# EAGLE library part TPS7A3301RGWR (library TPS7A3301RGWR)
-3V to -36V Vin, 1A output current, ultra-low-noise, high-PSRR, low-dropout (LDO) linear regulator Source: Datasheet <http://www.ti.com/lit/ds/symlink/tps7a33.pdf>
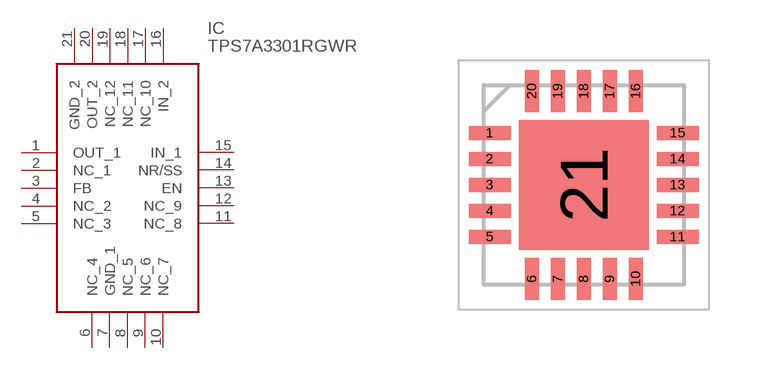
[diagram p0: symbol with the pads of QFN65P500X500X100-21N; footprint QFN65P500X500X100-21N]

Designator prefix IC

## TPS7A3301RGWR (Arrow_Part_Number: TPS7A3301RGWR; Arrow_Price-Stock: https://www.arrow.com/en/products/tps7a3301rgwr/texas-instruments?region=nac; Description: -3V to -36V Vin, 1A output current, ultra-low-noise, high-PSRR, low-dropout (LDO) linear regulator; Height: 1mm; Manufacturer_Name: Texas Instruments; Manufacturer_Part_Number: TPS7A3301RGWR; Mouser_Part_Number: 595-TPS7A3301RGWR; Mouser_Price-Stock: https://www.mouser.co.uk/ProductDetail/Texas-Instruments/TPS7A3301RGWR?qs=i8JZjLRTtkLEU7%252B8PZb5ZA%3D%3D)  [QFN65P500X500X100-21N]
1  OUT_1
2  NC_1
3  FB
4  NC_2
5  NC_3
6  NC_4
7  GND_1
8  NC_5
9  NC_6
10  NC_7
11  NC_8
12  NC_9
13  EN
14  NR/SS
15  IN_1
16  IN_2
17  NC_10
18  NC_11
19  NC_12
20  OUT_2
21  GND_2

## Footprint QFN65P500X500X100-21N (pad centres in mm)
TPS7A3301RGWR-1
smd 1.05 x 0.35: 1 -2.35,1.3; 2 -2.35,0.65; 3 -2.35,0; 4 -2.35,-0.65; 5 -2.35,-1.3; 11 2.35,-1.3; 12 2.35,-0.65; 13 2.35,0; 14 2.35,0.65; 15 2.35,1.3
smd 0.35 x 1.05: 6 -1.3,-2.35; 7 -0.65,-2.35; 8 0,-2.35; 9 0.65,-2.35; 10 1.3,-2.35; 16 1.3,2.35; 17 0.65,2.35; 18 0,2.35; 19 -0.65,2.35; 20 -1.3,2.35
smd 3.25 x 3.25: 21 0,0